# Altium integrated library NSC MiscPower.IntLib: 1417 symbols (part 22 of 39)
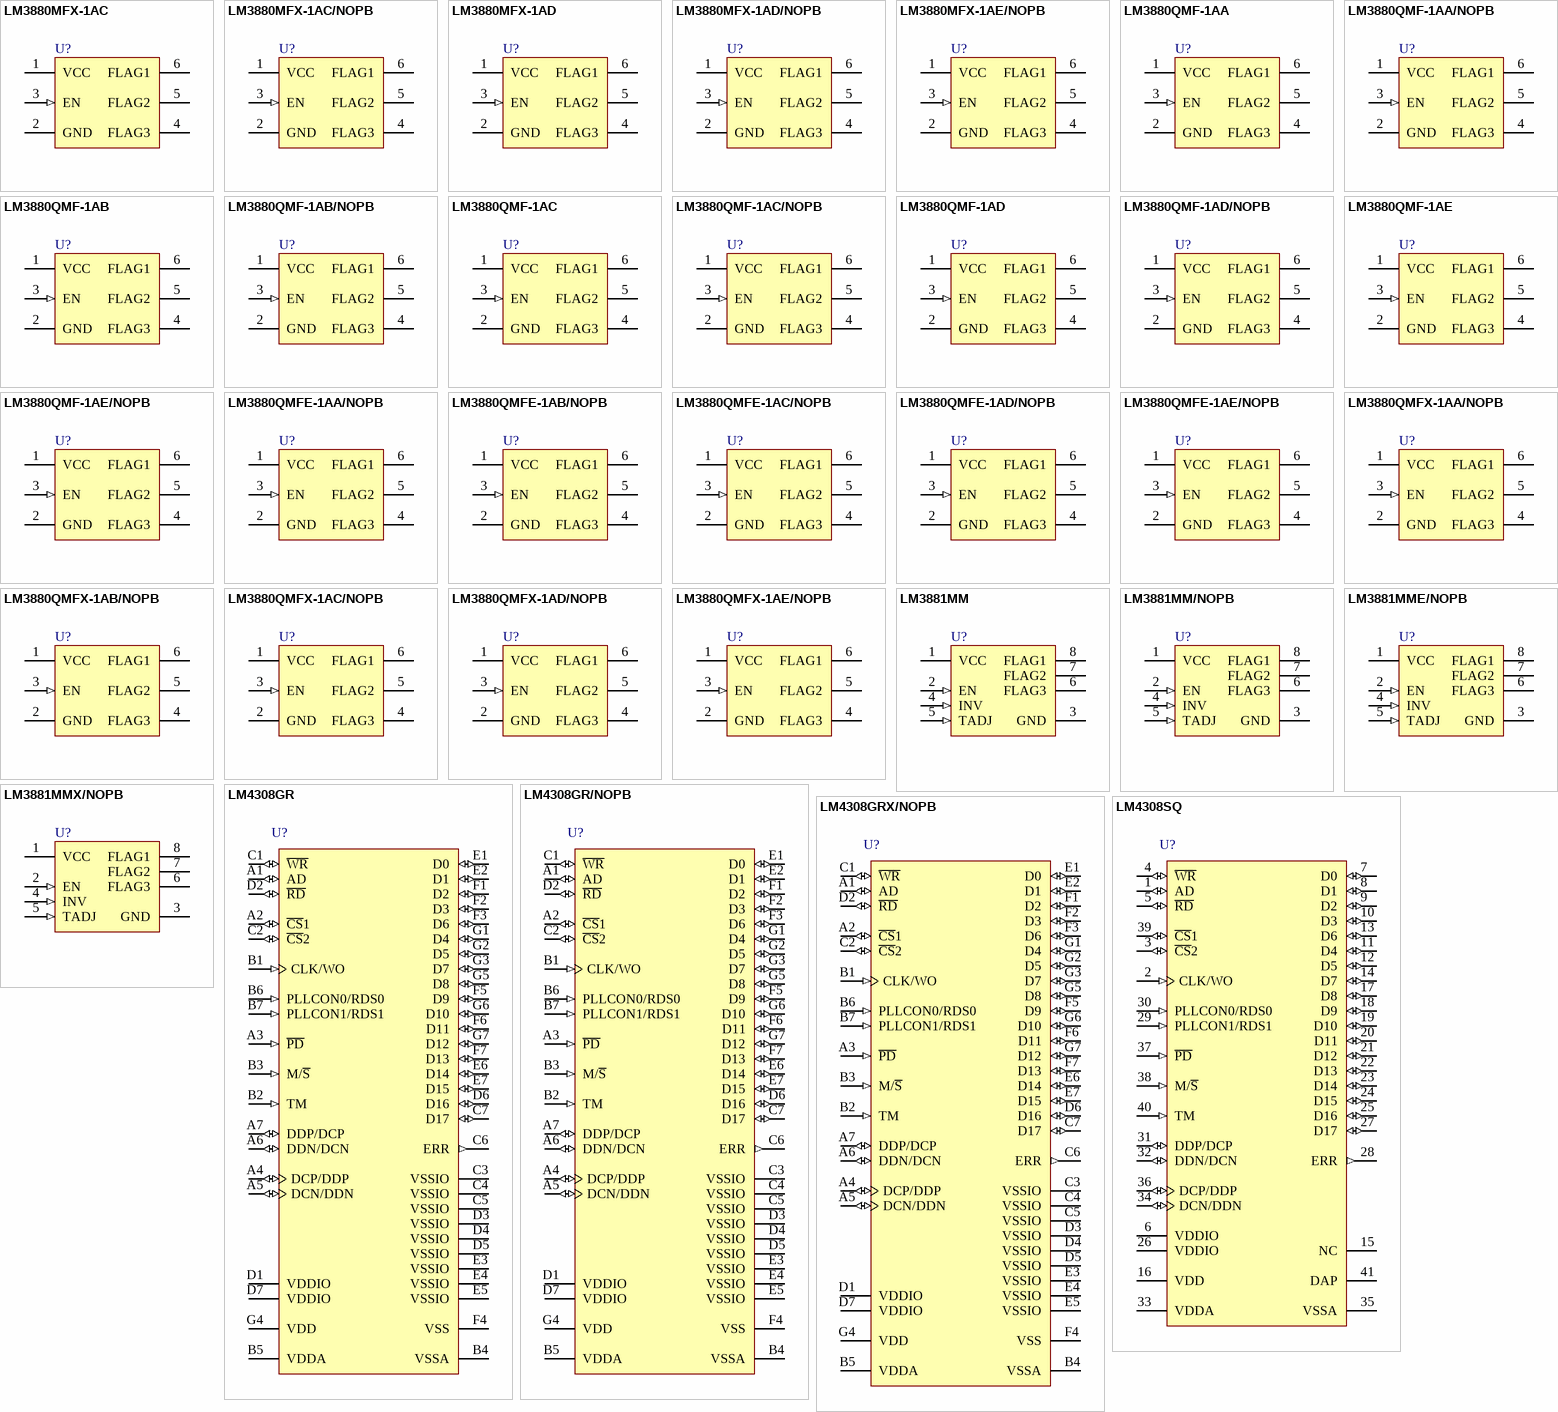
[diagram p72: symbols LM3880MFX-1AC to LM4308SQ]

## LM3880QMFX-1AC/NOPB
designator U?
Power Sequencer, 6-pin SOT-23, Pb-Free; PartNumber: LM3880QMFX-1AC/NOPB; Manufacturer: National Semiconductor; PackageTopMarking: F29A*XTT; PowerWise: N; CompType: MiscPower; Published: 1-Mar-2010; DatasheetVersion: May-2008; PackageVersion: revC, Sep-2005; PackageReference: MF06A; Publisher: Altium Limited; PackageDescription: Molded SOT-23, .115 x .063 x .040in Body, 6 Lead, .0375in in Pitch; Supplier 1: Digi-Key; Supplier Part Number 1: LM3880QMFX-1AC-ND; RoHS: Y; PinCount: 6; Code_JEDEC: MO-178-AB; Code_IPC: SOT26A-6; ComponentLink1Description: LM3880Q Datasheet; ComponentLink1URL: http://www.national.com/ds/LM/LM3880.pdf; ComponentLink2Description: LM3880Q Web Page; ComponentLink2URL: http://www.national.com/pf/LM/LM3880Q.html; ComponentLink3Description: MF06A Package Page; ComponentLink3URL: http://www.national.com/packaging/folders/mf06a.html
footprint MF06A_N (SOT23, 6-Leads, Body 2.9x1.6mm, Pitch 0.95mm, Lead Span 2.8mm, IPC Medium Density)
footprint MF06A_L (SOT23, 6-Leads, Body 2.9x1.6mm, Pitch 0.95mm, Lead Span 2.8mm, IPC High Density)
footprint MF06A_M (SOT23, 6-Leads, Body 2.9x1.6mm, Pitch 0.95mm, Lead Span 2.8mm, IPC Low Density)
pins: 1 VCC (power), 2 GND (power), 3 EN (in), 4 FLAG3 (oc), 5 FLAG2 (oc), 6 FLAG1 (oc)

## LM3880QMFX-1AD/NOPB
designator U?
Power Sequencer, 6-pin SOT-23, Pb-Free; PartNumber: LM3880QMFX-1AD/NOPB; Manufacturer: National Semiconductor; PackageTopMarking: F30A*XTT; PowerWise: N; CompType: MiscPower; Published: 1-Mar-2010; DatasheetVersion: May-2008; PackageVersion: revC, Sep-2005; PackageReference: MF06A; Publisher: Altium Limited; PackageDescription: Molded SOT-23, .115 x .063 x .040in Body, 6 Lead, .0375in in Pitch; Supplier 1: Digi-Key; Supplier Part Number 1: LM3880QMFX-1AD-ND; RoHS: Y; PinCount: 6; Code_JEDEC: MO-178-AB; Code_IPC: SOT26A-6; ComponentLink1Description: LM3880Q Datasheet; ComponentLink1URL: http://www.national.com/ds/LM/LM3880.pdf; ComponentLink2Description: LM3880Q Web Page; ComponentLink2URL: http://www.national.com/pf/LM/LM3880Q.html; ComponentLink3Description: MF06A Package Page; ComponentLink3URL: http://www.national.com/packaging/folders/mf06a.html
footprint MF06A_N (SOT23, 6-Leads, Body 2.9x1.6mm, Pitch 0.95mm, Lead Span 2.8mm, IPC Medium Density)
footprint MF06A_L (SOT23, 6-Leads, Body 2.9x1.6mm, Pitch 0.95mm, Lead Span 2.8mm, IPC High Density)
footprint MF06A_M (SOT23, 6-Leads, Body 2.9x1.6mm, Pitch 0.95mm, Lead Span 2.8mm, IPC Low Density)
pins: 1 VCC (power), 2 GND (power), 3 EN (in), 4 FLAG3 (oc), 5 FLAG2 (oc), 6 FLAG1 (oc)

## LM3880QMFX-1AE/NOPB
designator U?
Power Sequencer, 6-pin SOT-23, Pb-Free; PartNumber: LM3880QMFX-1AE/NOPB; Manufacturer: National Semiconductor; PackageTopMarking: F24A*XTT; PowerWise: N; CompType: MiscPower; Published: 1-Mar-2010; DatasheetVersion: May-2008; PackageVersion: revC, Sep-2005; PackageReference: MF06A; Publisher: Altium Limited; PackageDescription: Molded SOT-23, .115 x .063 x .040in Body, 6 Lead, .0375in in Pitch; Supplier 1: Digi-Key; Supplier Part Number 1: LM3880QMFX-1AE-ND; RoHS: Y; PinCount: 6; Code_JEDEC: MO-178-AB; Code_IPC: SOT26A-6; ComponentLink1Description: LM3880Q Datasheet; ComponentLink1URL: http://www.national.com/ds/LM/LM3880.pdf; ComponentLink2Description: LM3880Q Web Page; ComponentLink2URL: http://www.national.com/pf/LM/LM3880Q.html; ComponentLink3Description: MF06A Package Page; ComponentLink3URL: http://www.national.com/packaging/folders/mf06a.html
footprint MF06A_N (SOT23, 6-Leads, Body 2.9x1.6mm, Pitch 0.95mm, Lead Span 2.8mm, IPC Medium Density)
footprint MF06A_L (SOT23, 6-Leads, Body 2.9x1.6mm, Pitch 0.95mm, Lead Span 2.8mm, IPC High Density)
footprint MF06A_M (SOT23, 6-Leads, Body 2.9x1.6mm, Pitch 0.95mm, Lead Span 2.8mm, IPC Low Density)
pins: 1 VCC (power), 2 GND (power), 3 EN (in), 4 FLAG3 (oc), 5 FLAG2 (oc), 6 FLAG1 (oc)

## LM3881MM
designator U?
Power Sequencer, 8-pin MSOP; PartNumber: LM3881MM; Manufacturer: National Semiconductor; PackageTopMarking: ZXTT*STBB; PowerWise: N; CompType: MiscPower; Published: 4-Dec-2008; DatasheetVersion: Apr-2008; PackageVersion: revF, Apr-2008; PackageReference: MUA08A; Publisher: Altium Limited; PackageDescription: MINI SOIC, .118 x .118 x .034in, 8 Lead, .0256in Pitch; Supplier 1: Farnell; Supplier Part Number 1: 1552439; RoHS: Y; PinCount: 8; Code_JEDEC: MO-187-AA; ComponentLink1Description: LM3881 Datasheet; ComponentLink1URL: http://www.national.com/ds/LM/LM3881.pdf; ComponentLink2Description: LM3881 Web Page; ComponentLink2URL: http://www.national.com/pf/LM/LM3881.html; ComponentLink3Description: MUA08A Package Page; ComponentLink3URL: http://www.national.com/packaging/folders/mua08a.html
footprint MUA08A_N (TSOP, 8-Leads, Body 3x3mm, Pitch 0.65mm, IPC Medium Density)
footprint MUA08A_L (TSOP, 8-Leads, Body 3x3mm, Pitch 0.65mm, IPC High Density)
footprint MUA08A_M (TSOP, 8-Leads, Body 3x3mm, Pitch 0.65mm, IPC Low Density)
pins: 1 VCC (power), 2 EN (in), 3 GND (power), 4 INV (in), 5 TADJ (in), 6 FLAG3 (oc), 7 FLAG2 (oc), 8 FLAG1 (oc)

## LM3881MM/NOPB
designator U?
Power Sequencer, 8-pin MSOP, Pb-Free; PartNumber: LM3881MM/NOPB; Manufacturer: National Semiconductor; PackageTopMarking: ZXTT*STBB; PowerWise: N; CompType: MiscPower; Published: 1-Mar-2010; DatasheetVersion: Apr-2008; PackageVersion: revF, Apr-2008; PackageReference: MUA08A; Publisher: Altium Limited; PackageDescription: MINI SOIC, .118 x .118 x .034in, 8 Lead, .0256in Pitch; Supplier 1: Digi-Key; Supplier Part Number 1: LM3881MMTR-ND; Supplier 2: Digi-Key; Supplier Part Number 2: LM3881MMCT-ND; Supplier 3: Digi-Key; Supplier Part Number 3: LM3881MMDKR-ND; RoHS: Y; PinCount: 8; Code_JEDEC: MO-187-AA; ComponentLink1Description: LM3881 Datasheet; ComponentLink1URL: http://www.national.com/ds/LM/LM3881.pdf; ComponentLink2Description: LM3881 Web Page; ComponentLink2URL: http://www.national.com/pf/LM/LM3881.html; ComponentLink3Description: MUA08A Package Page; ComponentLink3URL: http://www.national.com/packaging/folders/mua08a.html
footprint MUA08A_N (TSOP, 8-Leads, Body 3x3mm, Pitch 0.65mm, IPC Medium Density)
footprint MUA08A_L (TSOP, 8-Leads, Body 3x3mm, Pitch 0.65mm, IPC High Density)
footprint MUA08A_M (TSOP, 8-Leads, Body 3x3mm, Pitch 0.65mm, IPC Low Density)
pins: 1 VCC (power), 2 EN (in), 3 GND (power), 4 INV (in), 5 TADJ (in), 6 FLAG3 (oc), 7 FLAG2 (oc), 8 FLAG1 (oc)

## LM3881MME/NOPB
designator U?
Power Sequencer, 8-pin MSOP, Pb-Free; PartNumber: LM3881MME/NOPB; Manufacturer: National Semiconductor; PackageTopMarking: ZXTT*STBB; PowerWise: N; CompType: MiscPower; Published: 1-Mar-2010; DatasheetVersion: Apr-2008; PackageVersion: revF, Apr-2008; PackageReference: MUA08A; Publisher: Altium Limited; PackageDescription: MINI SOIC, .118 x .118 x .034in, 8 Lead, .0256in Pitch; Supplier 1: Digi-Key; Supplier Part Number 1: LM3881MME-ND; RoHS: Y; PinCount: 8; Code_JEDEC: MO-187-AA; ComponentLink1Description: LM3881 Datasheet; ComponentLink1URL: http://www.national.com/ds/LM/LM3881.pdf; ComponentLink2Description: LM3881 Web Page; ComponentLink2URL: http://www.national.com/pf/LM/LM3881.html; ComponentLink3Description: MUA08A Package Page; ComponentLink3URL: http://www.national.com/packaging/folders/mua08a.html
footprint MUA08A_N (TSOP, 8-Leads, Body 3x3mm, Pitch 0.65mm, IPC Medium Density)
footprint MUA08A_L (TSOP, 8-Leads, Body 3x3mm, Pitch 0.65mm, IPC High Density)
footprint MUA08A_M (TSOP, 8-Leads, Body 3x3mm, Pitch 0.65mm, IPC Low Density)
pins: 1 VCC (power), 2 EN (in), 3 GND (power), 4 INV (in), 5 TADJ (in), 6 FLAG3 (oc), 7 FLAG2 (oc), 8 FLAG1 (oc)

## LM3881MMX/NOPB
designator U?
Power Sequencer, 8-pin MSOP, Pb-Free; PartNumber: LM3881MMX/NOPB; Manufacturer: National Semiconductor; PackageTopMarking: ZXTT*STBB; PowerWise: N; CompType: MiscPower; Published: 1-Mar-2010; DatasheetVersion: Apr-2008; PackageVersion: revF, Apr-2008; PackageReference: MUA08A; Publisher: Altium Limited; PackageDescription: MINI SOIC, .118 x .118 x .034in, 8 Lead, .0256in Pitch; Supplier 1: Digi-Key; Supplier Part Number 1: LM3881MMX-ND; RoHS: Y; PinCount: 8; Code_JEDEC: MO-187-AA; ComponentLink1Description: LM3881 Datasheet; ComponentLink1URL: http://www.national.com/ds/LM/LM3881.pdf; ComponentLink2Description: LM3881 Web Page; ComponentLink2URL: http://www.national.com/pf/LM/LM3881.html; ComponentLink3Description: MUA08A Package Page; ComponentLink3URL: http://www.national.com/packaging/folders/mua08a.html
footprint MUA08A_N (TSOP, 8-Leads, Body 3x3mm, Pitch 0.65mm, IPC Medium Density)
footprint MUA08A_L (TSOP, 8-Leads, Body 3x3mm, Pitch 0.65mm, IPC High Density)
footprint MUA08A_M (TSOP, 8-Leads, Body 3x3mm, Pitch 0.65mm, IPC Low Density)
pins: 1 VCC (power), 2 EN (in), 3 GND (power), 4 INV (in), 5 TADJ (in), 6 FLAG3 (oc), 7 FLAG2 (oc), 8 FLAG1 (oc)

## LM4308GR
designator U?
Mobile Pixel Link Two (MPL-2) - 18-bit CPU Display Interface Master/Slave, 49-pin Micro-Array; PartNumber: LM4308GR; Manufacturer: National Semiconductor; PackageTopMarking: NS*UZXYTT*L4308GR; PowerWise: N; CompType: MiscPower; Published: 4-Dec-2008; DatasheetVersion: Sep-2007; PackageVersion: revA, Nov-2003; PackageReference: GRA49A; Publisher: Altium Limited; PackageDescription: Micro-Array, 4 x 4 x 1mm Body, 49 Ball, 0.5mm Pitch; Supplier 1: Farnell; Supplier Part Number 1: 1609188; RoHS: Y; PinCount: 49; ComponentLink1Description: LM4308 Datasheet; ComponentLink1URL: http://www.national.com/ds/LM/LM4308.pdf; ComponentLink2Description: LM4308 Web Page; ComponentLink2URL: http://www.national.com/pf/LM/LM4308.html; ComponentLink3Description: GRA49A Package Page; ComponentLink3URL: http://www.national.com/packaging/folders/gra49a.html
footprint GRA49A (BGA, 49-Leads, Body 4x4mm, Pitch 0.5mm, NSC Recommended)
pins: A1 AD (io), A2 ~{CS}1 (io), A3 ~{PD} (in), A4 DCP/DDP (io), A5 DCN/DDN (io), A6 DDN/DCN (io), A7 DDP/DCP (io), B1 CLK/WO (in), B2 TM (in), B3 M/~{S} (in), B4 VSSA (power), B5 VDDA (power), B6 PLLCON0/RDS0 (in), B7 PLLCON1/RDS1 (in), C1 ~{WR} (io), C2 ~{CS}2 (io), C3 VSSIO, C4 VSSIO, C5 VSSIO, C6 ERR (out), C7 D17 (io), D1 VDDIO (power), D2 ~{RD} (io), D3 VSSIO, D4 VSSIO, D5 VSSIO, D6 D16 (io), D7 VDDIO (power), E1 D0 (io), E2 D1 (io), E3 VSSIO, E4 VSSIO, E5 VSSIO, E6 D14 (io), E7 D15 (io), F1 D2 (io), F2 D3 (io), F3 D6 (io), F4 VSS (power), F5 D9 (io), F6 D11 (io), F7 D13 (io), G1 D4 (io), G2 D5 (io), G3 D7 (io), G4 VDD (power), G5 D8 (io), G6 D10 (io), G7 D12 (io)

## LM4308GR/NOPB
designator U?
Mobile Pixel Link Two (MPL-2) - 18-bit CPU Display Interface Master/Slave, 49-pin Micro-Array, Pb-Free; PartNumber: LM4308GR/NOPB; Manufacturer: National Semiconductor; PackageTopMarking: NS*UZXYTT*L4308GR; PowerWise: N; CompType: MiscPower; Published: 1-Mar-2010; DatasheetVersion: Sep-2007; PackageVersion: revA, Nov-2003; PackageReference: GRA49A; Publisher: Altium Limited; PackageDescription: Micro-Array, 4 x 4 x 1mm Body, 49 Ball, 0.5mm Pitch; Supplier 1: Digi-Key; Supplier Part Number 1: LM4308GRTR-ND; Supplier 2: Digi-Key; Supplier Part Number 2: LM4308GRCT-ND; Supplier 3: Digi-Key; Supplier Part Number 3: LM4308GRDKR-ND; RoHS: Y; PinCount: 49; ComponentLink1Description: LM4308 Datasheet; ComponentLink1URL: http://www.national.com/ds/LM/LM4308.pdf; ComponentLink2Description: LM4308 Web Page; ComponentLink2URL: http://www.national.com/pf/LM/LM4308.html; ComponentLink3Description: GRA49A Package Page; ComponentLink3URL: http://www.national.com/packaging/folders/gra49a.html
footprint GRA49A (BGA, 49-Leads, Body 4x4mm, Pitch 0.5mm, NSC Recommended)
pins: A1 AD (io), A2 ~{CS}1 (io), A3 ~{PD} (in), A4 DCP/DDP (io), A5 DCN/DDN (io), A6 DDN/DCN (io), A7 DDP/DCP (io), B1 CLK/WO (in), B2 TM (in), B3 M/~{S} (in), B4 VSSA (power), B5 VDDA (power), B6 PLLCON0/RDS0 (in), B7 PLLCON1/RDS1 (in), C1 ~{WR} (io), C2 ~{CS}2 (io), C3 VSSIO, C4 VSSIO, C5 VSSIO, C6 ERR (out), C7 D17 (io), D1 VDDIO (power), D2 ~{RD} (io), D3 VSSIO, D4 VSSIO, D5 VSSIO, D6 D16 (io), D7 VDDIO (power), E1 D0 (io), E2 D1 (io), E3 VSSIO, E4 VSSIO, E5 VSSIO, E6 D14 (io), E7 D15 (io), F1 D2 (io), F2 D3 (io), F3 D6 (io), F4 VSS (power), F5 D9 (io), F6 D11 (io), F7 D13 (io), G1 D4 (io), G2 D5 (io), G3 D7 (io), G4 VDD (power), G5 D8 (io), G6 D10 (io), G7 D12 (io)

## LM4308GRX/NOPB
designator U?
Mobile Pixel Link Two (MPL-2) - 18-bit CPU Display Interface Master/Slave, 49-pin Micro-Array, Pb-Free; PartNumber: LM4308GRX/NOPB; Manufacturer: National Semiconductor; PackageTopMarking: NS*UZXYTT*L4308GR; PowerWise: N; CompType: MiscPower; Published: 1-Mar-2010; DatasheetVersion: Sep-2007; PackageVersion: revA, Nov-2003; PackageReference: GRA49A; Publisher: Altium Limited; PackageDescription: Micro-Array, 4 x 4 x 1mm Body, 49 Ball, 0.5mm Pitch; Supplier 1: Digi-Key; Supplier Part Number 1: LM4308GRX-ND; RoHS: Y; PinCount: 49; ComponentLink1Description: LM4308 Datasheet; ComponentLink1URL: http://www.national.com/ds/LM/LM4308.pdf; ComponentLink2Description: LM4308 Web Page; ComponentLink2URL: http://www.national.com/pf/LM/LM4308.html; ComponentLink3Description: GRA49A Package Page; ComponentLink3URL: http://www.national.com/packaging/folders/gra49a.html
footprint GRA49A (BGA, 49-Leads, Body 4x4mm, Pitch 0.5mm, NSC Recommended)
pins: A1 AD (io), A2 ~{CS}1 (io), A3 ~{PD} (in), A4 DCP/DDP (io), A5 DCN/DDN (io), A6 DDN/DCN (io), A7 DDP/DCP (io), B1 CLK/WO (in), B2 TM (in), B3 M/~{S} (in), B4 VSSA (power), B5 VDDA (power), B6 PLLCON0/RDS0 (in), B7 PLLCON1/RDS1 (in), C1 ~{WR} (io), C2 ~{CS}2 (io), C3 VSSIO, C4 VSSIO, C5 VSSIO, C6 ERR (out), C7 D17 (io), D1 VDDIO (power), D2 ~{RD} (io), D3 VSSIO, D4 VSSIO, D5 VSSIO, D6 D16 (io), D7 VDDIO (power), E1 D0 (io), E2 D1 (io), E3 VSSIO, E4 VSSIO, E5 VSSIO, E6 D14 (io), E7 D15 (io), F1 D2 (io), F2 D3 (io), F3 D6 (io), F4 VSS (power), F5 D9 (io), F6 D11 (io), F7 D13 (io), G1 D4 (io), G2 D5 (io), G3 D7 (io), G4 VDD (power), G5 D8 (io), G6 D10 (io), G7 D12 (io)

## LM4308SQ
designator U?
Mobile Pixel Link Two (MPL-2) - 18-bit CPU Display Interface Master/Slave, 40-pin LLP; PartNumber: LM4308SQ; Manufacturer: National Semiconductor; PackageTopMarking: NS*UZXYTT*L4308SQ; PowerWise: N; CompType: MiscPower; Published: 4-Dec-2008; DatasheetVersion: Sep-2007; PackageVersion: revB, Jul-2004; PackageReference: SQF40A; Publisher: Altium Limited; PackageDescription: LLP, Quad, 5 x 5 x 0.8mm Body, 40 Lead, 0.4mm Pitch, 3.6 x 3.6mm Exposed Pad; Supplier 1: Farnell; Supplier Part Number 1: 1609189; RoHS: Y; PinCount: 40; ComponentLink1Description: LM4308 Datasheet; ComponentLink1URL: http://www.national.com/ds/LM/LM4308.pdf; ComponentLink2Description: LM4308 Web Page; ComponentLink2URL: http://www.national.com/pf/LM/LM4308.html; ComponentLink3Description: SQF40A Package Page; ComponentLink3URL: http://www.national.com/packaging/folders/sqf40a.html
footprint SQF40A (QFN, 40-Leads, Body 5x5 mm, Pitch 0.4mm, NSC Recommended)
pins: 1 AD (io), 2 CLK/WO (in), 3 ~{CS}2 (io), 4 ~{WR} (io), 5 ~{RD} (io), 6 VDDIO (power), 7 D0 (io), 8 D1 (io), 9 D2 (io), 10 D3 (io), 11 D4 (io), 12 D5 (io), 13 D6 (io), 14 D7 (io), 15 NC, 16 VDD (power), 17 D8 (io), 18 D9 (io), 19 D10 (io), 20 D11 (io), 21 D12 (io), 22 D13 (io), 23 D14 (io), 24 D15 (io), 25 D16 (io), 26 VDDIO (power), 27 D17 (io), 28 ERR (out), 29 PLLCON1/RDS1 (in), 30 PLLCON0/RDS0 (in), 31 DDP/DCP (io), 32 DDN/DCN (io), 33 VDDA (power), 34 DCN/DDN (io), 35 VSSA (power), 36 DCP/DDP (io), 37 ~{PD} (in), 38 M/~{S} (in), 39 ~{CS}1 (io), 40 TM (in), 41 DAP (power)

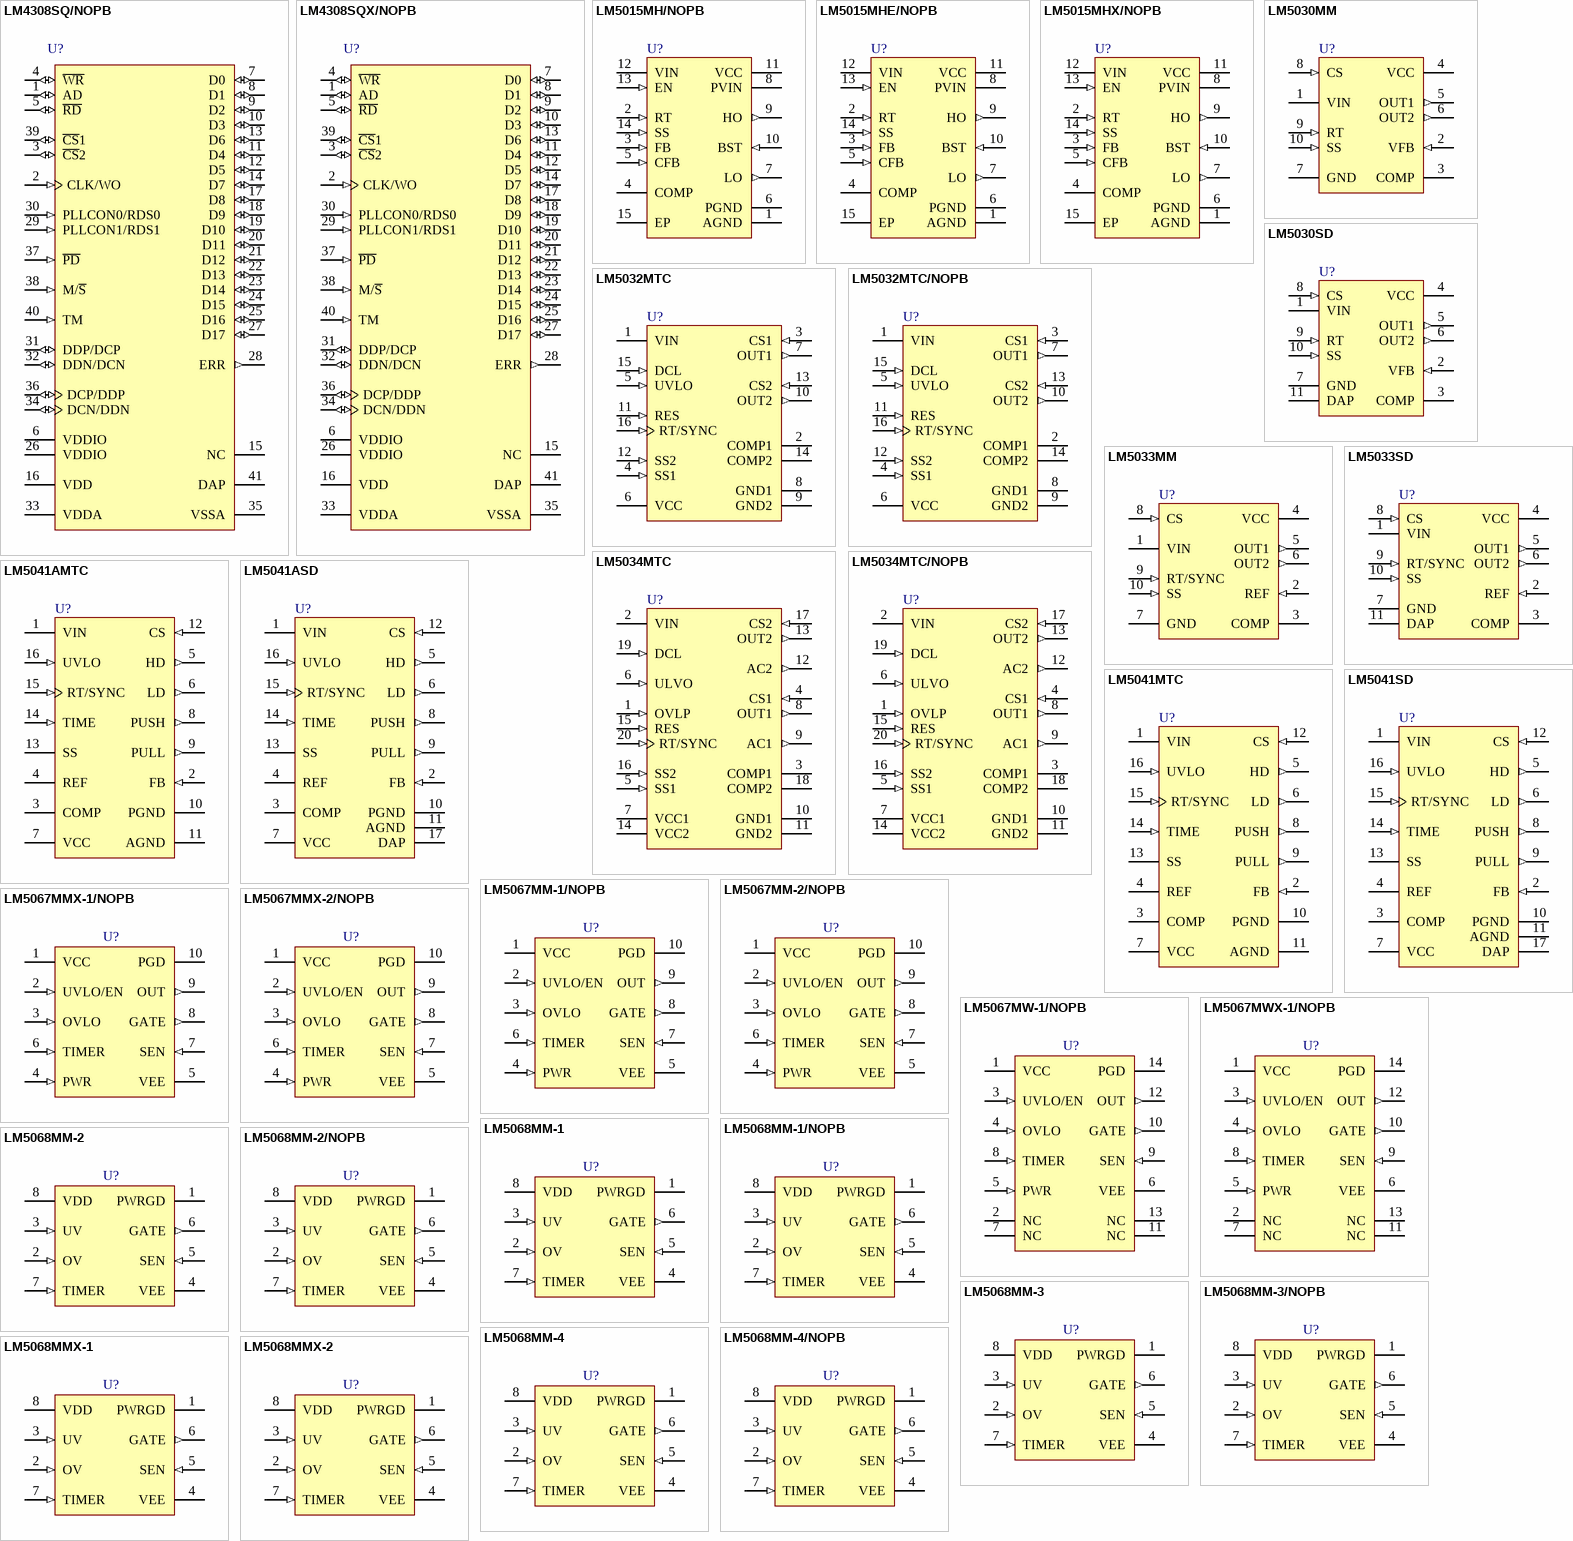
[diagram p24: symbols LM4308SQ/NOPB to LM5068MMX-2]

## LM4308SQ/NOPB
designator U?
Mobile Pixel Link Two (MPL-2) - 18-bit CPU Display Interface Master/Slave, 40-pin LLP, Pb-Free; PartNumber: LM4308SQ/NOPB; Manufacturer: National Semiconductor; PackageTopMarking: NS*UZXYTT*L4308SQ; PowerWise: N; CompType: MiscPower; Published: 1-Mar-2010; DatasheetVersion: Sep-2007; PackageVersion: revB, Jul-2004; PackageReference: SQF40A; Publisher: Altium Limited; PackageDescription: LLP, Quad, 5 x 5 x 0.8mm Body, 40 Lead, 0.4mm Pitch, 3.6 x 3.6mm Exposed Pad; Supplier 1: Digi-Key; Supplier Part Number 1: LM4308SQTR-ND; Supplier 2: Digi-Key; Supplier Part Number 2: LM4308SQCT-ND; Supplier 3: Digi-Key; Supplier Part Number 3: LM4308SQDKR-ND; RoHS: Y; PinCount: 40; ComponentLink1Description: LM4308 Datasheet; ComponentLink1URL: http://www.national.com/ds/LM/LM4308.pdf; ComponentLink2Description: LM4308 Web Page; ComponentLink2URL: http://www.national.com/pf/LM/LM4308.html; ComponentLink3Description: SQF40A Package Page; ComponentLink3URL: http://www.national.com/packaging/folders/sqf40a.html
footprint SQF40A (QFN, 40-Leads, Body 5x5 mm, Pitch 0.4mm, NSC Recommended)
pins: 1 AD (io), 2 CLK/WO (in), 3 ~{CS}2 (io), 4 ~{WR} (io), 5 ~{RD} (io), 6 VDDIO (power), 7 D0 (io), 8 D1 (io), 9 D2 (io), 10 D3 (io), 11 D4 (io), 12 D5 (io), 13 D6 (io), 14 D7 (io), 15 NC, 16 VDD (power), 17 D8 (io), 18 D9 (io), 19 D10 (io), 20 D11 (io), 21 D12 (io), 22 D13 (io), 23 D14 (io), 24 D15 (io), 25 D16 (io), 26 VDDIO (power), 27 D17 (io), 28 ERR (out), 29 PLLCON1/RDS1 (in), 30 PLLCON0/RDS0 (in), 31 DDP/DCP (io), 32 DDN/DCN (io), 33 VDDA (power), 34 DCN/DDN (io), 35 VSSA (power), 36 DCP/DDP (io), 37 ~{PD} (in), 38 M/~{S} (in), 39 ~{CS}1 (io), 40 TM (in), 41 DAP (power)

## LM4308SQX/NOPB
designator U?
Mobile Pixel Link Two (MPL-2) - 18-bit CPU Display Interface Master/Slave, 40-pin LLP, Pb-Free; PartNumber: LM4308SQX/NOPB; Manufacturer: National Semiconductor; PackageTopMarking: NS*UZXYTT*L4308SQ; PowerWise: N; CompType: MiscPower; Published: 1-Mar-2010; DatasheetVersion: Sep-2007; PackageVersion: revB, Jul-2004; PackageReference: SQF40A; Publisher: Altium Limited; PackageDescription: LLP, Quad, 5 x 5 x 0.8mm Body, 40 Lead, 0.4mm Pitch, 3.6 x 3.6mm Exposed Pad; Supplier 1: Digi-Key; Supplier Part Number 1: LM4308SQX-ND; RoHS: Y; PinCount: 40; ComponentLink1Description: LM4308 Datasheet; ComponentLink1URL: http://www.national.com/ds/LM/LM4308.pdf; ComponentLink2Description: LM4308 Web Page; ComponentLink2URL: http://www.national.com/pf/LM/LM4308.html; ComponentLink3Description: SQF40A Package Page; ComponentLink3URL: http://www.national.com/packaging/folders/sqf40a.html
footprint SQF40A (QFN, 40-Leads, Body 5x5 mm, Pitch 0.4mm, NSC Recommended)
pins: 1 AD (io), 2 CLK/WO (in), 3 ~{CS}2 (io), 4 ~{WR} (io), 5 ~{RD} (io), 6 VDDIO (power), 7 D0 (io), 8 D1 (io), 9 D2 (io), 10 D3 (io), 11 D4 (io), 12 D5 (io), 13 D6 (io), 14 D7 (io), 15 NC, 16 VDD (power), 17 D8 (io), 18 D9 (io), 19 D10 (io), 20 D11 (io), 21 D12 (io), 22 D13 (io), 23 D14 (io), 24 D15 (io), 25 D16 (io), 26 VDDIO (power), 27 D17 (io), 28 ERR (out), 29 PLLCON1/RDS1 (in), 30 PLLCON0/RDS0 (in), 31 DDP/DCP (io), 32 DDN/DCN (io), 33 VDDA (power), 34 DCN/DDN (io), 35 VSSA (power), 36 DCP/DDP (io), 37 ~{PD} (in), 38 M/~{S} (in), 39 ~{CS}1 (io), 40 TM (in), 41 DAP (power)

## LM5015MH/NOPB
designator U?
High Voltage Monolithic Two-Switch Forward DC-DC Regulator, 14-pin TSSOP-EP, Pb-Free; PartNumber: LM5015MH/NOPB; Manufacturer: National Semiconductor; PackageTopMarking: NSUZXYTT*LM5015*MH; PowerWise: N; CompType: MiscPower; Published: 1-Mar-2010; DatasheetVersion: Jan-2009; PackageVersion: revA, Feb-2003; PackageReference: MXA14A; Publisher: Altium Limited; PackageDescription: Molded TSSOP, JEDEC, Exposed Pad, 5.0 x 4.4 x 0.9mm Body, 14 Lead, 0.65mm Pitch; Supplier 1: Digi-Key; Supplier Part Number 1: LM5015MH-ND; RoHS: Y; PinCount: 14; Code_JEDEC: MO-153-ABT-1; ComponentLink1Description: LM5015 Datasheet; ComponentLink1URL: http://www.national.com/ds/LM/LM5015.pdf; ComponentLink2Description: LM5015 Web Page; ComponentLink2URL: http://www.national.com/pf/LM/LM5015.html; ComponentLink3Description: MXA14A Package Page; ComponentLink3URL: http://www.national.com/packaging/folders/mxa14a.html
footprint MXA14A_N (TSOP, 14-Leads, Body 5x4.4mm, Pitch 0.65mm, Exposed Pad, IPC Medium Density)
footprint MXA14A_L (TSOP, 14-Leads, Body 5x4.4mm, Pitch 0.65mm, Exposed Pad, IPC High Density)
footprint MXA14A_M (TSOP, 14-Leads, Body 5x4.4mm, Pitch 0.65mm, Exposed Pad, IPC Low Density)
pins: 1 AGND (power), 2 RT (in), 3 FB (in), 4 COMP, 5 CFB (in), 6 PGND (power), 7 LO (out), 8 PVIN (power), 9 HO (out), 10 BST (in), 11 VCC (power), 12 VIN (power), 13 EN (in), 14 SS (in), 15 EP (power)

## LM5015MHE/NOPB
designator U?
High Voltage Monolithic Two-Switch Forward DC-DC Regulator, 14-pin TSSOP-EP, Pb-Free; PartNumber: LM5015MHE/NOPB; Manufacturer: National Semiconductor; PackageTopMarking: NSUZXYTT*LM5015*MH; PowerWise: N; CompType: MiscPower; Published: 1-Mar-2010; DatasheetVersion: Dec-2007; PackageVersion: revA, Feb-2003; PackageReference: MXA14A; Publisher: Altium Limited; PackageDescription: Molded TSSOP, JEDEC, Exposed Pad, 5.0 x 4.4 x 0.9mm Body, 14 Lead, 0.65mm Pitch; Supplier 1: Digi-Key; Supplier Part Number 1: LM5015MHE-ND; RoHS: Y; PinCount: 14; Code_JEDEC: MO-153-ABT-1; ComponentLink1Description: LM5015 Datasheet; ComponentLink1URL: http://www.national.com/ds/LM/LM5015.pdf; ComponentLink2Description: LM5015 Web Page; ComponentLink2URL: http://www.national.com/pf/LM/LM5015.html; ComponentLink3Description: MXA14A Package Page; ComponentLink3URL: http://www.national.com/packaging/folders/mxa14a.html
footprint MXA14A_N (TSOP, 14-Leads, Body 5x4.4mm, Pitch 0.65mm, Exposed Pad, IPC Medium Density)
footprint MXA14A_L (TSOP, 14-Leads, Body 5x4.4mm, Pitch 0.65mm, Exposed Pad, IPC High Density)
footprint MXA14A_M (TSOP, 14-Leads, Body 5x4.4mm, Pitch 0.65mm, Exposed Pad, IPC Low Density)
pins: 1 AGND (power), 2 RT (in), 3 FB (in), 4 COMP, 5 CFB (in), 6 PGND (power), 7 LO (out), 8 PVIN (power), 9 HO (out), 10 BST (in), 11 VCC (power), 12 VIN (power), 13 EN (in), 14 SS (in), 15 EP (power)

## LM5015MHX/NOPB
designator U?
High Voltage Monolithic Two-Switch Forward DC-DC Regulator, 14-pin TSSOP-EP, Pb-Free; PartNumber: LM5015MHX/NOPB; Manufacturer: National Semiconductor; PackageTopMarking: NSUZXYTT*LM5015*MH; PowerWise: N; CompType: MiscPower; Published: 1-Mar-2010; DatasheetVersion: Dec-2007; PackageVersion: revA, Feb-2003; PackageReference: MXA14A; Publisher: Altium Limited; PackageDescription: Molded TSSOP, JEDEC, Exposed Pad, 5.0 x 4.4 x 0.9mm Body, 14 Lead, 0.65mm Pitch; Supplier 1: Digi-Key; Supplier Part Number 1: LM5015MHX-ND; RoHS: Y; PinCount: 14; Code_JEDEC: MO-153-ABT-1; ComponentLink1Description: LM5015 Datasheet; ComponentLink1URL: http://www.national.com/ds/LM/LM5015.pdf; ComponentLink2Description: LM5015 Web Page; ComponentLink2URL: http://www.national.com/pf/LM/LM5015.html; ComponentLink3Description: MXA14A Package Page; ComponentLink3URL: http://www.national.com/packaging/folders/mxa14a.html
footprint MXA14A_N (TSOP, 14-Leads, Body 5x4.4mm, Pitch 0.65mm, Exposed Pad, IPC Medium Density)
footprint MXA14A_L (TSOP, 14-Leads, Body 5x4.4mm, Pitch 0.65mm, Exposed Pad, IPC High Density)
footprint MXA14A_M (TSOP, 14-Leads, Body 5x4.4mm, Pitch 0.65mm, Exposed Pad, IPC Low Density)
pins: 1 AGND (power), 2 RT (in), 3 FB (in), 4 COMP, 5 CFB (in), 6 PGND (power), 7 LO (out), 8 PVIN (power), 9 HO (out), 10 BST (in), 11 VCC (power), 12 VIN (power), 13 EN (in), 14 SS (in), 15 EP (power)

## LM5030MM
designator U?
100V Push-Pull Current Mode PWM Controller, 10-pin MSOP; PartNumber: LM5030MM; Manufacturer: National Semiconductor; PackageTopMarking: ZXTT*S73B; PowerWise: Y; CompType: MiscPower; Published: 4-Dec-2008; DatasheetVersion: Mar-2005; PackageVersion: revB, Jul-2003; PackageReference: MUB10A; Publisher: Altium Limited; PackageDescription: Mini-SO, Molded, .118 x .118 x .034in Body, 10 Lead, .0197in Pitch; Supplier 1: Farnell; Supplier Part Number 1: 9779353; RoHS: N; PinCount: 10; Code_JEDEC: MO-187-BA; ComponentLink1Description: LM5030 Datasheet; ComponentLink1URL: http://www.national.com/ds/LM/LM5030.pdf; ComponentLink2Description: LM5030 Web Page; ComponentLink2URL: http://www.national.com/pf/LM/LM5030.html; ComponentLink3Description: MUB10A Package Page; ComponentLink3URL: http://www.national.com/packaging/folders/mub10a.html
footprint MUB10A_N (TSSOP, 10-Leads, Body 3x3mm, Pitch 0.5mm, IPC Medium Density)
footprint MUB10A_L (TSSOP, 10-Leads, Body 3x3mm, Pitch 0.5mm, IPC High Density)
footprint MUB10A_M (TSSOP, 10-Leads, Body 3x3mm, Pitch 0.5mm, IPC Low Density)
pins: 1 VIN (power), 2 VFB (in), 3 COMP, 4 VCC (power), 5 OUT1 (out), 6 OUT2 (out), 7 GND (power), 8 CS (in), 9 RT (in), 10 SS (in)

## LM5030SD
designator U?
100V Push-Pull Current Mode PWM Controller, 10-pin LLP; PartNumber: LM5030SD; Manufacturer: National Semiconductor; PackageTopMarking: NS*UZXYTT*5030SD; PowerWise: Y; CompType: MiscPower; Published: 4-Dec-2008; DatasheetVersion: Mar-2005; PackageVersion: revA, May-2003; PackageReference: SDC10A; Publisher: Altium Limited; PackageDescription: LLP, Plastic, Dual, 4 x 4 x 0.8mm Body, 10 Lead, 0.8mm Pitch, No Pullback; Supplier 1: Farnell; Supplier Part Number 1: 1798332; RoHS: N; PinCount: 10; ComponentLink1Description: LM5030 Datasheet; ComponentLink1URL: http://www.national.com/ds/LM/LM5030.pdf; ComponentLink2Description: LM5030 Web Page; ComponentLink2URL: http://www.national.com/pf/LM/LM5030.html; ComponentLink3Description: SDC10A Package Page; ComponentLink3URL: http://www.national.com/packaging/folders/sdc10a.html
footprint SDC10A (SON, 10-Leads, Body 4x4 mm, Pitch 0.8mm, NSC Recommended)
pins: 1 VIN (power), 2 VFB (in), 3 COMP, 4 VCC (power), 5 OUT1 (out), 6 OUT2 (out), 7 GND (power), 8 CS (in), 9 RT (in), 10 SS (in), 11 DAP (power)

## LM5032MTC
designator U?
High Voltage Dual Interleaved Current Mode Controller, 16-pin TSSOP; PartNumber: LM5032MTC; Manufacturer: National Semiconductor; PackageTopMarking: NSUZXYTT*LM5032*MTC; PowerWise: Y; CompType: MiscPower; Published: 4-Dec-2008; DatasheetVersion: Mar-2005; PackageVersion: revD, Jun-2003; PackageReference: MTC16; Publisher: Altium Limited; PackageDescription: Molded TSSOP, Jedec, 5 x 4.4 x 0.9mm Body, 16 Lead, 0.65mm Pitch; Supplier 1: Farnell; Supplier Part Number 1: 1008029; RoHS: N; PinCount: 16; Code_JEDEC: MO-153-AB; ComponentLink1Description: LM5032 Datasheet; ComponentLink1URL: http://www.national.com/ds/LM/LM5032.pdf; ComponentLink2Description: LM5032 Web Page; ComponentLink2URL: http://www.national.com/pf/LM/LM5032.html; ComponentLink3Description: MTC16 Package Page; ComponentLink3URL: http://www.national.com/packaging/folders/mtc16.html
footprint MTC16_N (TSOP, 16-Leads, Body 5x4.4mm, Pitch 0.65mm, IPC Medium Density)
footprint MTC16_L (TSOP, 16-Leads, Body 5x4.4mm, Pitch 0.65mm, IPC High Density)
footprint MTC16_M (TSOP, 16-Leads, Body 5x4.4mm, Pitch 0.65mm, IPC Low Density)
pins: 1 VIN (power), 2 COMP1, 3 CS1 (in), 4 SS1 (in), 5 UVLO (in), 6 VCC (power), 7 OUT1 (out), 8 GND1 (power), 9 GND2 (power), 10 OUT2 (out), 11 RES (in), 12 SS2 (in), 13 CS2 (in), 14 COMP2, 15 DCL (in), 16 RT/SYNC (in)

## LM5032MTC/NOPB
designator U?
High Voltage Dual Interleaved Current Mode Controller, 16-pin TSSOP, Pb-Free; PartNumber: LM5032MTC/NOPB; Manufacturer: National Semiconductor; PackageTopMarking: NSUZXYTT*LM5032*MTC; PowerWise: Y; CompType: MiscPower; Published: 1-Mar-2010; DatasheetVersion: Mar-2005; PackageVersion: revD, Jun-2003; PackageReference: MTC16; Publisher: Altium Limited; PackageDescription: Molded TSSOP, Jedec, 5 x 4.4 x 0.9mm Body, 16 Lead, 0.65mm Pitch; Supplier 1: Digi-Key; Supplier Part Number 1: LM5032MTC-ND; Supplier 2: Farnell; Supplier Part Number 2: 1694026; RoHS: Y; PinCount: 16; Code_JEDEC: MO-153-AB; ComponentLink1Description: LM5032 Datasheet; ComponentLink1URL: http://www.national.com/ds/LM/LM5032.pdf; ComponentLink2Description: LM5032 Web Page; ComponentLink2URL: http://www.national.com/pf/LM/LM5032.html; ComponentLink3Description: MTC16 Package Page; ComponentLink3URL: http://www.national.com/packaging/folders/mtc16.html
footprint MTC16_N (TSOP, 16-Leads, Body 5x4.4mm, Pitch 0.65mm, IPC Medium Density)
footprint MTC16_L (TSOP, 16-Leads, Body 5x4.4mm, Pitch 0.65mm, IPC High Density)
footprint MTC16_M (TSOP, 16-Leads, Body 5x4.4mm, Pitch 0.65mm, IPC Low Density)
pins: 1 VIN (power), 2 COMP1, 3 CS1 (in), 4 SS1 (in), 5 UVLO (in), 6 VCC (power), 7 OUT1 (out), 8 GND1 (power), 9 GND2 (power), 10 OUT2 (out), 11 RES (in), 12 SS2 (in), 13 CS2 (in), 14 COMP2, 15 DCL (in), 16 RT/SYNC (in)

## LM5033MM
designator U?
100V Push-Pull Voltage Mode PWM Controller, 10-pin MSOP; PartNumber: LM5033MM; Manufacturer: National Semiconductor; PackageTopMarking: ZXTT*SCVB; PowerWise: Y; CompType: MiscPower; Published: 4-Dec-2008; DatasheetVersion: Feb-2005; PackageVersion: revB, Jul-2003; PackageReference: MUB10A; Publisher: Altium Limited; PackageDescription: Mini-SO, Molded, .118 x .118 x .034in Body, 10 Lead, .0197in Pitch; Supplier 1: Farnell; Supplier Part Number 1: 1312591; RoHS: N; PinCount: 10; Code_JEDEC: MO-187-BA; ComponentLink1Description: LM5033 Datasheet; ComponentLink1URL: http://www.national.com/ds/LM/LM5033.pdf; ComponentLink2Description: LM5033 Web Page; ComponentLink2URL: http://www.national.com/pf/LM/LM5033.html; ComponentLink3Description: MUB10A Package Page; ComponentLink3URL: http://www.national.com/packaging/folders/mub10a.html
footprint MUB10A_N (TSSOP, 10-Leads, Body 3x3mm, Pitch 0.5mm, IPC Medium Density)
footprint MUB10A_L (TSSOP, 10-Leads, Body 3x3mm, Pitch 0.5mm, IPC High Density)
footprint MUB10A_M (TSSOP, 10-Leads, Body 3x3mm, Pitch 0.5mm, IPC Low Density)
pins: 1 VIN (power), 2 REF (in), 3 COMP, 4 VCC (power), 5 OUT1 (out), 6 OUT2 (out), 7 GND (power), 8 CS (in), 9 RT/SYNC (in), 10 SS (in)

## LM5033SD
designator U?
100V Push-Pull Voltage Mode PWM Controller, 10-pin LLP; PartNumber: LM5033SD; Manufacturer: National Semiconductor; PackageTopMarking: NS*UZXYTT*5033SD; PowerWise: Y; CompType: MiscPower; Published: 4-Dec-2008; DatasheetVersion: Feb-2005; PackageVersion: revA, May-2003; PackageReference: SDC10A; Publisher: Altium Limited; PackageDescription: LLP, Plastic, Dual, 4 x 4 x 0.8mm Body, 10 Lead, 0.8mm Pitch, No Pullback; RoHS: N; PinCount: 10; ComponentLink1Description: LM5033 Datasheet; ComponentLink1URL: http://www.national.com/ds/LM/LM5033.pdf; ComponentLink2Description: LM5033 Web Page; ComponentLink2URL: http://www.national.com/pf/LM/LM5033.html; ComponentLink3Description: SDC10A Package Page; ComponentLink3URL: http://www.national.com/packaging/folders/sdc10a.html
footprint SDC10A (SON, 10-Leads, Body 4x4 mm, Pitch 0.8mm, NSC Recommended)
pins: 1 VIN (power), 2 REF (in), 3 COMP, 4 VCC (power), 5 OUT1 (out), 6 OUT2 (out), 7 GND (power), 8 CS (in), 9 RT/SYNC (in), 10 SS (in), 11 DAP (power)

## LM5034MTC
designator U?
High Voltage Dual Interleaved Current Mode Controller with Active Clamp, 20-pin TSSOP; PartNumber: LM5034MTC; Manufacturer: National Semiconductor; PackageTopMarking: NSUZXYTT*LM5034*MT; PowerWise: Y; CompType: MiscPower; Published: 4-Dec-2008; DatasheetVersion: Feb-2005; PackageVersion: revE, Mar-2003; PackageReference: MTC20; Publisher: Altium Limited; PackageDescription: Molded TSSOP, Jedec, 6.5 x 4.4 x 0.9mm Body, 20 Lead, 0.65mm Pitch; Supplier 1: Farnell; Supplier Part Number 1: 1008030; RoHS: N; PinCount: 20; Code_JEDEC: MO-153-AC; ComponentLink1Description: LM5034 Datasheet; ComponentLink1URL: http://www.national.com/ds/LM/LM5034.pdf; ComponentLink2Description: LM5034 Web Page; ComponentLink2URL: http://www.national.com/pf/LM/LM5034.html; ComponentLink3Description: MTC20 Package Page; ComponentLink3URL: http://www.national.com/packaging/folders/mtc20.html
footprint MTC20_N (TSOP, 20-Leads, Body 6.5x4.4mm, Pitch 0.65mm, IPC Medium Density)
footprint MTC20_L (TSOP, 20-Leads, Body 6.5x4.4mm, Pitch 0.65mm, IPC High Density)
footprint MTC20_M (TSOP, 20-Leads, Body 6.5x4.4mm, Pitch 0.65mm, IPC Low Density)
pins: 1 OVLP (in), 2 VIN (power), 3 COMP1, 4 CS1 (in), 5 SS1 (in), 6 ULVO (in), 7 VCC1 (power), 8 OUT1 (out), 9 AC1 (out), 10 GND1 (power), 11 GND2 (power), 12 AC2 (out), 13 OUT2 (out), 14 VCC2 (power), 15 RES (in), 16 SS2 (in), 17 CS2 (in), 18 COMP2, 19 DCL (in), 20 RT/SYNC (in)

## LM5034MTC/NOPB
designator U?
High Voltage Dual Interleaved Current Mode Controller with Active Clamp, 20-pin TSSOP, Pb-Free; PartNumber: LM5034MTC/NOPB; Manufacturer: National Semiconductor; PackageTopMarking: NSUZXYTT*LM5034*MT; PowerWise: Y; CompType: MiscPower; Published: 1-Mar-2010; DatasheetVersion: Feb-2005; PackageVersion: revE, Mar-2003; PackageReference: MTC20; Publisher: Altium Limited; PackageDescription: Molded TSSOP, Jedec, 6.5 x 4.4 x 0.9mm Body, 20 Lead, 0.65mm Pitch; Supplier 1: Digi-Key; Supplier Part Number 1: LM5034MTC-ND; Supplier 2: Farnell; Supplier Part Number 2: 1694027; RoHS: Y; PinCount: 20; Code_JEDEC: MO-153-AC; ComponentLink1Description: LM5034 Datasheet; ComponentLink1URL: http://www.national.com/ds/LM/LM5034.pdf; ComponentLink2Description: LM5034 Web Page; ComponentLink2URL: http://www.national.com/pf/LM/LM5034.html; ComponentLink3Description: MTC20 Package Page; ComponentLink3URL: http://www.national.com/packaging/folders/mtc20.html
footprint MTC20_N (TSOP, 20-Leads, Body 6.5x4.4mm, Pitch 0.65mm, IPC Medium Density)
footprint MTC20_L (TSOP, 20-Leads, Body 6.5x4.4mm, Pitch 0.65mm, IPC High Density)
footprint MTC20_M (TSOP, 20-Leads, Body 6.5x4.4mm, Pitch 0.65mm, IPC Low Density)
pins: 1 OVLP (in), 2 VIN (power), 3 COMP1, 4 CS1 (in), 5 SS1 (in), 6 ULVO (in), 7 VCC1 (power), 8 OUT1 (out), 9 AC1 (out), 10 GND1 (power), 11 GND2 (power), 12 AC2 (out), 13 OUT2 (out), 14 VCC2 (power), 15 RES (in), 16 SS2 (in), 17 CS2 (in), 18 COMP2, 19 DCL (in), 20 RT/SYNC (in)

## LM5041AMTC
designator U?
Cascaded PWM Controller, 16-pin TSSOP; PartNumber: LM5041AMTC; Manufacturer: National Semiconductor; PackageTopMarking: NSUZXYTT*LM5041A*MTC; PowerWise: Y; CompType: MiscPower; Published: 4-Dec-2008; DatasheetVersion: May-2005; PackageVersion: revD, Jun-2003; PackageReference: MTC16; Publisher: Altium Limited; PackageDescription: Molded TSSOP, Jedec, 5 x 4.4 x 0.9mm Body, 16 Lead, 0.65mm Pitch; Supplier 1: Farnell; Supplier Part Number 1: 1008259; RoHS: N; PinCount: 16; Code_JEDEC: MO-153-AB; ComponentLink1Description: LM5041A Datasheet; ComponentLink1URL: http://www.national.com/ds/LM/LM5041A.pdf; ComponentLink2Description: LM5041A Web Page; ComponentLink2URL: http://www.national.com/pf/LM/LM5041A.html; ComponentLink3Description: MTC16 Package Page; ComponentLink3URL: http://www.national.com/packaging/folders/mtc16.html
footprint MTC16_N (TSOP, 16-Leads, Body 5x4.4mm, Pitch 0.65mm, IPC Medium Density)
footprint MTC16_L (TSOP, 16-Leads, Body 5x4.4mm, Pitch 0.65mm, IPC High Density)
footprint MTC16_M (TSOP, 16-Leads, Body 5x4.4mm, Pitch 0.65mm, IPC Low Density)
pins: 1 VIN (power), 2 FB (in), 3 COMP, 4 REF (power), 5 HD (out), 6 LD (out), 7 VCC (power), 8 PUSH (out), 9 PULL (out), 10 PGND (power), 11 AGND (power), 12 CS (in), 13 SS, 14 TIME (in), 15 RT/SYNC (in), 16 UVLO (in)

## LM5041ASD
designator U?
Cascaded PWM Controller, 16-pin LLP; PartNumber: LM5041ASD; Manufacturer: National Semiconductor; PackageTopMarking: NS*UZXYTT*5041ASD; PowerWise: Y; CompType: MiscPower; Published: 4-Dec-2008; DatasheetVersion: May-2005; PackageVersion: revA, May-2003; PackageReference: SDA16A; Publisher: Altium Limited; PackageDescription: LLP, Plastic, Dual, 5 x 5 x 0.8mm Body,16 Lead, 0.5mm Pitch, No Pullback; RoHS: N; PinCount: 16; ComponentLink1Description: LM5041A Datasheet; ComponentLink1URL: http://www.national.com/ds/LM/LM5041A.pdf; ComponentLink2Description: LM5041A Web Page; ComponentLink2URL: http://www.national.com/pf/LM/LM5041A.html; ComponentLink3Description: SDA16A Package Page; ComponentLink3URL: http://www.national.com/packaging/folders/sda16a.html
footprint SDA16A (SON, 16-Leads, Body 5x5mm, Pitch 0.5mm, NSC Recommended)
pins: 1 VIN (power), 2 FB (in), 3 COMP, 4 REF (power), 5 HD (out), 6 LD (out), 7 VCC (power), 8 PUSH (out), 9 PULL (out), 10 PGND (power), 11 AGND (power), 12 CS (in), 13 SS, 14 TIME (in), 15 RT/SYNC (in), 16 UVLO (in), 17 DAP (power)

## LM5041MTC
designator U?
Cascaded PWM Controller, 16-pin TSSOP; PartNumber: LM5041MTC; Manufacturer: National Semiconductor; PackageTopMarking: NSZXYTT*LM5041*MTC; PowerWise: Y; CompType: MiscPower; Published: 4-Dec-2008; DatasheetVersion: Apr-2004; PackageVersion: revD, Jun-2003; PackageReference: MTC16; Publisher: Altium Limited; PackageDescription: Molded TSSOP, Jedec, 5 x 4.4 x 0.9mm Body, 16 Lead, 0.65mm Pitch; Supplier 1: Farnell; Supplier Part Number 1: 9779361; RoHS: N; PinCount: 16; Code_JEDEC: MO-153-AB; ComponentLink1Description: LM5041 Datasheet; ComponentLink1URL: http://www.national.com/ds/LM/LM5041.pdf; ComponentLink2Description: LM5041 Web Page; ComponentLink2URL: http://www.national.com/pf/LM/LM5041.html; ComponentLink3Description: MTC16 Package Page; ComponentLink3URL: http://www.national.com/packaging/folders/mtc16.html
footprint MTC16_N (TSOP, 16-Leads, Body 5x4.4mm, Pitch 0.65mm, IPC Medium Density)
footprint MTC16_L (TSOP, 16-Leads, Body 5x4.4mm, Pitch 0.65mm, IPC High Density)
footprint MTC16_M (TSOP, 16-Leads, Body 5x4.4mm, Pitch 0.65mm, IPC Low Density)
pins: 1 VIN (power), 2 FB (in), 3 COMP, 4 REF (power), 5 HD (out), 6 LD (out), 7 VCC (power), 8 PUSH (out), 9 PULL (out), 10 PGND (power), 11 AGND (power), 12 CS (in), 13 SS, 14 TIME (in), 15 RT/SYNC (in), 16 UVLO (in)

## LM5041SD
designator U?
Cascaded PWM Controller, 16-pin LLP; PartNumber: LM5041SD; Manufacturer: National Semiconductor; PackageTopMarking: NS*UZXYTT*5041SD; PowerWise: Y; CompType: MiscPower; Published: 4-Dec-2008; DatasheetVersion: Apr-2004; PackageVersion: revA, May-2003; PackageReference: SDA16A; Publisher: Altium Limited; PackageDescription: LLP, Plastic, Dual, 5 x 5 x 0.8mm Body,16 Lead, 0.5mm Pitch, No Pullback; Supplier 1: Farnell; Supplier Part Number 1: 9490574; RoHS: N; PinCount: 16; ComponentLink1Description: LM5041 Datasheet; ComponentLink1URL: http://www.national.com/ds/LM/LM5041.pdf; ComponentLink2Description: LM5041 Web Page; ComponentLink2URL: http://www.national.com/pf/LM/LM5041.html; ComponentLink3Description: SDA16A Package Page; ComponentLink3URL: http://www.national.com/packaging/folders/sda16a.html
footprint SDA16A (SON, 16-Leads, Body 5x5mm, Pitch 0.5mm, NSC Recommended)
pins: 1 VIN (power), 2 FB (in), 3 COMP, 4 REF (power), 5 HD (out), 6 LD (out), 7 VCC (power), 8 PUSH (out), 9 PULL (out), 10 PGND (power), 11 AGND (power), 12 CS (in), 13 SS, 14 TIME (in), 15 RT/SYNC (in), 16 UVLO (in), 17 DAP (power)

## LM5067MM-1/NOPB
designator U?
Negative Hot Swap / Inrush Current Controller with Power Limiting, 10-pin MSOP, Pb-Free; PartNumber: LM5067MM-1/NOPB; Manufacturer: National Semiconductor; PackageTopMarking: ZXTT*SRUB; PowerWise: N; CompType: MiscPower; Published: 1-Mar-2010; DatasheetVersion: Sep-2009; PackageVersion: revB, Jul-2003; PackageReference: MUB10A; Publisher: Altium Limited; PackageDescription: Mini-SO, Molded, .118 x .118 x .034in Body, 10 Lead, .0197in Pitch; Supplier 1: Digi-Key; Supplier Part Number 1: LM5067MM-1TR-ND; Supplier 2: Digi-Key; Supplier Part Number 2: LM5067MM-1CT-ND; Supplier 3: Digi-Key; Supplier Part Number 3: LM5067MM-1DKR-ND; RoHS: Y; PinCount: 10; Code_JEDEC: MO-187-BA; ComponentLink1Description: LM5067 Datasheet; ComponentLink1URL: http://www.national.com/ds/LM/LM5067.pdf; ComponentLink2Description: LM5067 Web Page; ComponentLink2URL: http://www.national.com/pf/LM/LM5067.html; ComponentLink3Description: MUB10A Package Page; ComponentLink3URL: http://www.national.com/packaging/folders/mub10a.html
footprint MUB10A_N (TSSOP, 10-Leads, Body 3x3mm, Pitch 0.5mm, IPC Medium Density)
footprint MUB10A_L (TSSOP, 10-Leads, Body 3x3mm, Pitch 0.5mm, IPC High Density)
footprint MUB10A_M (TSSOP, 10-Leads, Body 3x3mm, Pitch 0.5mm, IPC Low Density)
pins: 1 VCC (power), 2 UVLO/EN (in), 3 OVLO (in), 4 PWR (in), 5 VEE (power), 6 TIMER (in), 7 SEN (in), 8 GATE (out), 9 OUT (out), 10 PGD (oc)

## LM5067MM-2/NOPB
designator U?
Negative Hot Swap / Inrush Current Controller with Power Limiting, 10-pin MSOP, Pb-Free; PartNumber: LM5067MM-2/NOPB; Manufacturer: National Semiconductor; PackageTopMarking: ZXTT*SRVB; PowerWise: N; CompType: MiscPower; Published: 1-Mar-2010; DatasheetVersion: Sep-2009; PackageVersion: revB, Jul-2003; PackageReference: MUB10A; Publisher: Altium Limited; PackageDescription: Mini-SO, Molded, .118 x .118 x .034in Body, 10 Lead, .0197in Pitch; Supplier 1: Digi-Key; Supplier Part Number 1: LM5067MM-2TR-ND; Supplier 2: Digi-Key; Supplier Part Number 2: LM5067MM-2CT-ND; Supplier 3: Digi-Key; Supplier Part Number 3: LM5067MM-2DKR-ND; RoHS: Y; PinCount: 10; Code_JEDEC: MO-187-BA; ComponentLink1Description: LM5067 Datasheet; ComponentLink1URL: http://www.national.com/ds/LM/LM5067.pdf; ComponentLink2Description: LM5067 Web Page; ComponentLink2URL: http://www.national.com/pf/LM/LM5067.html; ComponentLink3Description: MUB10A Package Page; ComponentLink3URL: http://www.national.com/packaging/folders/mub10a.html
footprint MUB10A_N (TSSOP, 10-Leads, Body 3x3mm, Pitch 0.5mm, IPC Medium Density)
footprint MUB10A_L (TSSOP, 10-Leads, Body 3x3mm, Pitch 0.5mm, IPC High Density)
footprint MUB10A_M (TSSOP, 10-Leads, Body 3x3mm, Pitch 0.5mm, IPC Low Density)
pins: 1 VCC (power), 2 UVLO/EN (in), 3 OVLO (in), 4 PWR (in), 5 VEE (power), 6 TIMER (in), 7 SEN (in), 8 GATE (out), 9 OUT (out), 10 PGD (oc)

## LM5067MMX-1/NOPB
designator U?
Negative Hot Swap / Inrush Current Controller with Power Limiting, 10-pin MSOP, Pb-Free; PartNumber: LM5067MMX-1/NOPB; Manufacturer: National Semiconductor; PackageTopMarking: ZXTT*SRUB; PowerWise: N; CompType: MiscPower; Published: 1-Mar-2010; DatasheetVersion: Sep-2009; PackageVersion: revB, Jul-2003; PackageReference: MUB10A; Publisher: Altium Limited; PackageDescription: Mini-SO, Molded, .118 x .118 x .034in Body, 10 Lead, .0197in Pitch; Supplier 1: Digi-Key; Supplier Part Number 1: LM5067MMX-1-ND; RoHS: Y; PinCount: 10; Code_JEDEC: MO-187-BA; ComponentLink1Description: LM5067 Datasheet; ComponentLink1URL: http://www.national.com/ds/LM/LM5067.pdf; ComponentLink2Description: LM5067 Web Page; ComponentLink2URL: http://www.national.com/pf/LM/LM5067.html; ComponentLink3Description: MUB10A Package Page; ComponentLink3URL: http://www.national.com/packaging/folders/mub10a.html
footprint MUB10A_N (TSSOP, 10-Leads, Body 3x3mm, Pitch 0.5mm, IPC Medium Density)
footprint MUB10A_L (TSSOP, 10-Leads, Body 3x3mm, Pitch 0.5mm, IPC High Density)
footprint MUB10A_M (TSSOP, 10-Leads, Body 3x3mm, Pitch 0.5mm, IPC Low Density)
pins: 1 VCC (power), 2 UVLO/EN (in), 3 OVLO (in), 4 PWR (in), 5 VEE (power), 6 TIMER (in), 7 SEN (in), 8 GATE (out), 9 OUT (out), 10 PGD (oc)

## LM5067MMX-2/NOPB
designator U?
Negative Hot Swap / Inrush Current Controller with Power Limiting, 10-pin MSOP, Pb-Free; PartNumber: LM5067MMX-2/NOPB; Manufacturer: National Semiconductor; PackageTopMarking: ZXTT*SRVB; PowerWise: N; CompType: MiscPower; Published: 1-Mar-2010; DatasheetVersion: Sep-2009; PackageVersion: revB, Jul-2003; PackageReference: MUB10A; Publisher: Altium Limited; PackageDescription: Mini-SO, Molded, .118 x .118 x .034in Body, 10 Lead, .0197in Pitch; Supplier 1: Digi-Key; Supplier Part Number 1: LM5067MMX-2-ND; RoHS: Y; PinCount: 10; Code_JEDEC: MO-187-BA; ComponentLink1Description: LM5067 Datasheet; ComponentLink1URL: http://www.national.com/ds/LM/LM5067.pdf; ComponentLink2Description: LM5067 Web Page; ComponentLink2URL: http://www.national.com/pf/LM/LM5067.html; ComponentLink3Description: MUB10A Package Page; ComponentLink3URL: http://www.national.com/packaging/folders/mub10a.html
footprint MUB10A_N (TSSOP, 10-Leads, Body 3x3mm, Pitch 0.5mm, IPC Medium Density)
footprint MUB10A_L (TSSOP, 10-Leads, Body 3x3mm, Pitch 0.5mm, IPC High Density)
footprint MUB10A_M (TSSOP, 10-Leads, Body 3x3mm, Pitch 0.5mm, IPC Low Density)
pins: 1 VCC (power), 2 UVLO/EN (in), 3 OVLO (in), 4 PWR (in), 5 VEE (power), 6 TIMER (in), 7 SEN (in), 8 GATE (out), 9 OUT (out), 10 PGD (oc)

## LM5067MW-1/NOPB
designator U?
Negative Hot Swap / Inrush Current Controller with Power Limiting, 14-pin Wide SOIC, Pb-Free; PartNumber: LM5067MW-1/NOPB; Manufacturer: National Semiconductor; PackageTopMarking: NSUZXYTTE#*LM5067*MW-1; PowerWise: N; CompType: MiscPower; Published: 1-Mar-2010; DatasheetVersion: Sep-2009; PackageVersion: revD, Feb-1987; PackageReference: M14B; Publisher: Altium Limited; PackageDescription: Molded Package, S.O., .300in Wide, 14 Lead; Supplier 1: Digi-Key; Supplier Part Number 1: LM5067MW-1-ND; RoHS: Y; PinCount: 14; Code_JEDEC: MS-013-AF; Code_IPC: SOIC127P1030-14; ComponentLink1Description: LM5067 Datasheet; ComponentLink1URL: http://www.national.com/ds/LM/LM5067.pdf; ComponentLink2Description: LM5067 Web Page; ComponentLink2URL: http://www.national.com/pf/LM/LM5067.html; ComponentLink3Description: M14B Package Page; ComponentLink3URL: http://www.national.com/packaging/folders/m14b.html
footprint M14B_N (SOIC, 14-Leads, Body 9x7.5mm, Pitch 1.27mm, IPC Medium Density)
footprint M14B_L (SOIC, 14-Leads, Body 9x7.5mm, Pitch 1.27mm, IPC High Density)
footprint M14B_M (SOIC, 14-Leads, Body 9x7.5mm, Pitch 1.27mm, IPC Low Density)
pins: 1 VCC (power), 2 NC, 3 UVLO/EN (in), 4 OVLO (in), 5 PWR (in), 6 VEE (power), 7 NC, 8 TIMER (in), 9 SEN (in), 10 GATE (out), 11 NC, 12 OUT (out), 13 NC, 14 PGD (oc)

## LM5067MWX-1/NOPB
designator U?
Negative Hot Swap / Inrush Current Controller with Power Limiting, 14-pin Wide SOIC, Pb-Free; PartNumber: LM5067MWX-1/NOPB; Manufacturer: National Semiconductor; PackageTopMarking: NSUZXYTTE#*LM5067*MW-1; PowerWise: N; CompType: MiscPower; Published: 1-Mar-2010; DatasheetVersion: Sep-2009; PackageVersion: revD, Feb-1987; PackageReference: M14B; Publisher: Altium Limited; PackageDescription: Molded Package, S.O., .300in Wide, 14 Lead; Supplier 1: Digi-Key; Supplier Part Number 1: LM5067MWX-1-ND; RoHS: Y; PinCount: 14; Code_JEDEC: MS-013-AF; Code_IPC: SOIC127P1030-14; ComponentLink1Description: LM5067 Datasheet; ComponentLink1URL: http://www.national.com/ds/LM/LM5067.pdf; ComponentLink2Description: LM5067 Web Page; ComponentLink2URL: http://www.national.com/pf/LM/LM5067.html; ComponentLink3Description: M14B Package Page; ComponentLink3URL: http://www.national.com/packaging/folders/m14b.html
footprint M14B_N (SOIC, 14-Leads, Body 9x7.5mm, Pitch 1.27mm, IPC Medium Density)
footprint M14B_L (SOIC, 14-Leads, Body 9x7.5mm, Pitch 1.27mm, IPC High Density)
footprint M14B_M (SOIC, 14-Leads, Body 9x7.5mm, Pitch 1.27mm, IPC Low Density)
pins: 1 VCC (power), 2 NC, 3 UVLO/EN (in), 4 OVLO (in), 5 PWR (in), 6 VEE (power), 7 NC, 8 TIMER (in), 9 SEN (in), 10 GATE (out), 11 NC, 12 OUT (out), 13 NC, 14 PGD (oc)

## LM5068MM-1
designator U?
Negative Voltage Hot Swap Controller, 8-pin MSOP; PartNumber: LM5068MM-1; Manufacturer: National Semiconductor; PackageTopMarking: ZXTT*S66B; PowerWise: N; CompType: MiscPower; Published: 4-Dec-2008; DatasheetVersion: Dec-2004; PackageVersion: revF, Apr-2008; PackageReference: MUA08A; Publisher: Altium Limited; PackageDescription: MINI SOIC, .118 x .118 x .034in, 8 Lead, .0256in Pitch; Supplier 1: Farnell; Supplier Part Number 1: 1008260; RoHS: N; PinCount: 8; Code_JEDEC: MO-187-AA; ComponentLink1Description: LM5068 Datasheet; ComponentLink1URL: http://www.national.com/ds/LM/LM5068.pdf; ComponentLink2Description: LM5068 Web Page; ComponentLink2URL: http://www.national.com/pf/LM/LM5068.html; ComponentLink3Description: MUA08A Package Page; ComponentLink3URL: http://www.national.com/packaging/folders/mua08a.html
footprint MUA08A_N (TSOP, 8-Leads, Body 3x3mm, Pitch 0.65mm, IPC Medium Density)
footprint MUA08A_L (TSOP, 8-Leads, Body 3x3mm, Pitch 0.65mm, IPC High Density)
footprint MUA08A_M (TSOP, 8-Leads, Body 3x3mm, Pitch 0.65mm, IPC Low Density)
pins: 1 PWRGD (oc), 2 OV (in), 3 UV (in), 4 VEE (power), 5 SEN (in), 6 GATE (out), 7 TIMER (in), 8 VDD (power)

## LM5068MM-1/NOPB
designator U?
Negative Voltage Hot Swap Controller, 8-pin MSOP, Pb-Free; PartNumber: LM5068MM-1/NOPB; Manufacturer: National Semiconductor; PackageTopMarking: ZXTT*S66B; PowerWise: N; CompType: MiscPower; Published: 1-Mar-2010; DatasheetVersion: Dec-2004; PackageVersion: revF, Apr-2008; PackageReference: MUA08A; Publisher: Altium Limited; PackageDescription: MINI SOIC, .118 x .118 x .034in, 8 Lead, .0256in Pitch; Supplier 1: Digi-Key; Supplier Part Number 1: LM5068MM-1TR-ND; Supplier 2: Digi-Key; Supplier Part Number 2: LM5068MM-1CT-ND; Supplier 3: Digi-Key; Supplier Part Number 3: LM5068MM-1DKR-ND; RoHS: Y; PinCount: 8; Code_JEDEC: MO-187-AA; ComponentLink1Description: LM5068 Datasheet; ComponentLink1URL: http://www.national.com/ds/LM/LM5068.pdf; ComponentLink2Description: LM5068 Web Page; ComponentLink2URL: http://www.national.com/pf/LM/LM5068.html; ComponentLink3Description: MUA08A Package Page; ComponentLink3URL: http://www.national.com/packaging/folders/mua08a.html
footprint MUA08A_N (TSOP, 8-Leads, Body 3x3mm, Pitch 0.65mm, IPC Medium Density)
footprint MUA08A_L (TSOP, 8-Leads, Body 3x3mm, Pitch 0.65mm, IPC High Density)
footprint MUA08A_M (TSOP, 8-Leads, Body 3x3mm, Pitch 0.65mm, IPC Low Density)
pins: 1 PWRGD (oc), 2 OV (in), 3 UV (in), 4 VEE (power), 5 SEN (in), 6 GATE (out), 7 TIMER (in), 8 VDD (power)